# Altium footprint library ESP32_SERVO.PcbLib: 11 footprints
Each footprint in its own frame and in the unit in brackets; x right, y up, seen from the top. Pads: shape width x height; smd on the part's side, far side on the other; paste and mask are expansions set on the pad; w line width, h text height; cw(c..) or ccw(c..) is an arc to the next point about the centre after c.
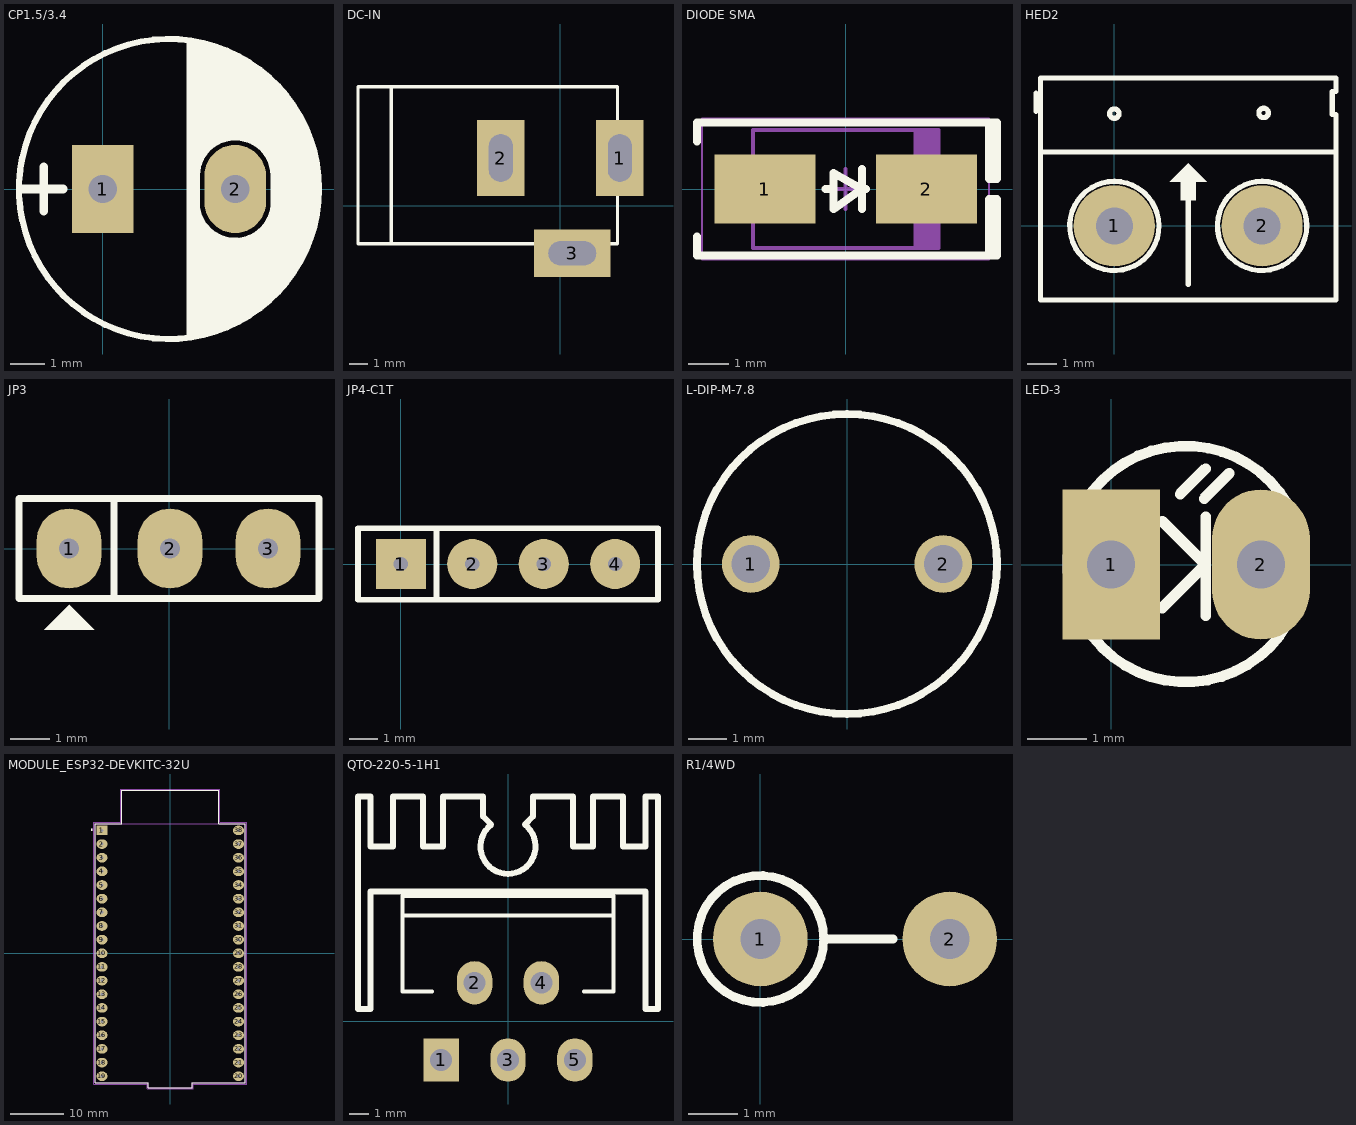
[diagram p0: the footprints below, top view; thin cyan lines are the x and y axes]

## CP1.5/3.4 [mil] "Tu hoa 220->470uF,16V, 470uF/16V,25V"
height 300
pads (2):
  rect 70x100 hole 32: 1(0,0)
  oval 70x100 hole 32: 2(150,0)
Top Overlay:
  circle w7: c75,0 r170
  region: 100,25 135,60 162.93,60 164.6,59.92 167.88,59.26 170.98,57.98 173.76,56.12 175,55 181.46,48.54 182.26,47.66 183.57,45.69 184.48,43.5 184.94,41.18 185,40 190,35 191.12,33.76 192.98,30.98 194.26,27.88 194.92,24.6 195,22.93 195,-27.93 194.92,-29.6 194.26,-32.88 192.98,-35.98 191.12,-38.76 190,-40 178.54,-51.46 177.66,-52.26 175.69,-53.57 173.5,-54.48 171.18,-54.94 170,-55 168.76,-56.13 165.98,-57.98 162.88,-59.27 159.6,-59.92 157.93,-60 144.14,-60 140.8,-59.84 134.23,-58.53 128.05,-55.97 122.48,-52.25 120,-50 108.54,-38.54 107.74,-37.66 106.43,-35.69 105.52,-33.5 105.06,-31.18 105,-30 100,-30 100,-170 155,-150 195,-120 225,-80 245,-20 245,20 230,70 200,115 165,145 120,165 100,170
  lines w10: -90,0 -45,0 ; -67,-25 -67,25 ; 100,-165 100,165 ; 100,25 105,25 ; 105,-20 105,30 ; 105,-10 ccw(c150,-15) 145,-60 ccw(c150,-15) 195,-20 195,15 ccw(c150,15) 150,60 ccw(c150,15) 105,15
3D body "User Library-CAP 8X11_5.STEP": height 445.89, standoff -754.41, extent -84.96,-157.48 230,157.48

## DC-IN [mil] "Jac DC input"
height 200
pads (3):
  rect 100x160 hole 50 slot 100 at 90 deg: 1(125,100) 2(-125,100)
  rect 160x100 hole 50 slot 100 at 0 deg: 3(25,-100)
Top Overlay:
  lines w7: -355,-80 -355,250 ; -425,-80 -425,250 120,250 120,-80 -425,-80
3D body "SW3dPS-dc range - dc connector[4840.2201].STEP": height 433.67, standoff -137.2, extent -410.35,-105.12 134,269.12

## DIODE SMA [mm] "SMA"
height 2.4
pads (2):
  rect 2.5x1.7 smd: 1(-2,0) 2(2,0)
Top Overlay:
  lines w0.2: -3.683,-1.175 -3.683,-1.651 3.75,-1.651 3.75,-0.254 3.556,-0.254 3.556,-1.651 ; -3.683,1.175 -3.683,1.651 3.75,1.651 3.75,0.254 3.556,0.254 3.556,1.651 ; -0.5,0 -0.3,0 ; 0.4,-0.5 0.4,0.5 ; 0.5,0 0.4,0 ; 0.4,0 -0.3,0.4 -0.3,-0.5 0.4,0
Mechanical 13:
  rectangle: 1.681,-1.46 2.3,1.46
  lines w0.1: -2.3,-1.46 -2.3,1.46 2.3,1.46 2.3,-1.46 -2.3,-1.46
Mechanical 15:
  lines w0.05: -3.556,-1.75 -3.556,1.75 3.556,1.75 3.556,-1.75 -3.556,-1.75
  lines w0.1: -0.5,0 0.5,0 ; 0,-0.5 0,0.5
3D body "SMA.STEP": height 2.4, standoff 0, extent -2.6,-1.375 2.6,1.375

## HED2 [mil] "Header 2, 2 pin, hight 300mil, Pin to Pin 200, Colour Green"
height 300
pads (2):
  round 110 hole 50: 1(0,0) 2(200,0)
Top Overlay:
  circle w7: c202,153 r6.4
  circle w7: c0,152 r6.4
  region: 100,85 75,60 90,60 90,35 110,35 110,60 125,60
  lines w7: -106,155 -106,180 ; -98,100 299,100 ; 38.83,46.23 ccw(c0,0) 40.11,45.12 ; 100,-79 100,72 ; 238.74,46.3 ccw(c200,0) 240.11,45.12 ; -100,-100 -100,50 -100,200 300,200 300,182 295,182 295,151 300,151 300,-100 -100,-100
3D body "SW3dPS-KRM2.STEP": height 393.7, standoff -157.48, extent -91.85,-140 301.85,155.28

## JP3 [mil] "Jumper 3"
height 200
pads (3):
  oval 65x80 hole 20: 1(-100,0) 2(1,0) 3(99,0)
Top Overlay:
  region: -100,-56 -125,-81 -75,-81
  lines w7: -55,-50 -55,49 ; -150,-50 -150,50 150,50 150,-50 -150,-50
3D body "User Library-PinHeaderX3.STEP": height 355.04, standoff -124.88, extent -150,-59.96 150,55

## JP4-C1T [mil] "4 row, straight, gold plating"
height 334.65
pads (4):
  rect 70x70 hole 20: 1(0,0)
  round 70 hole 20: 2(100,0) 3(200,0) 4(300,0)
Top Overlay:
  lines w7.87: 50,-50 50,50 ; -59.84,-50 -59.84,50 359.85,50 359.85,-50 -59.84,-50
3D body "61300411821.stp": height 335.04, standoff -121.65, extent -59.84,-49.21 359.85,49.22

## L-DIP-M-7.8 [mm] "THT Inductor, 2-Leads, Body 7,8  mm"
height 9.5
pads (2):
  round 1.5 hole 1: 1(-2.5,0) 2(2.5,0)
Top Overlay:
  circle w0.2: c0,0 r3.9
Mechanical 1:
  circle w0.1: c0,0 r3.9
3D body "744772471.stp": height 9.5, standoff -5, extent -3.9,-3.9 3.886,3.895

## LED-3 [mil] "LED 2 PIN, 3ly Only colour"
height 300
pads (2):
  rect 65x100 hole 32: 1(0,0)
  oval 65x100 hole 32: 2(100,0)
Top Overlay:
  lines w7: 34,-29 63,0 34,29 ; 46,47 63,64 ; 62,44 79,61 ; 63,-34 63,32 ; 117.92,-39.35 117.92,39.84
  lines w7.01: 117.57,-39.74 cw(c49.8,0.35) 117.72,40.19
3D body "SW3DPS-LED DIP 3MM-DEFAULT.STEP": height 217.14, standoff -117.51, extent -24.8,-74.81 112.99,74.8

## MODULE_ESP32-DEVKITC-32U [mil]
height 437.01
pads (38):
  rect 80x70 hole 20: 1(-500,899.61)
  oval 80x70 hole 20: 2(-500,799.61) 3(-500,699.61) 4(-500,599.61) 5(-500,499.61) 6(-500,399.61) 7(-500,299.61) 8(-500,199.61) 9(-500,99.61) 10(-500,-0.39) 11(-500,-100.39) 12(-500,-200.39) 13(-500,-300.39) 14(-500,-400.39) 15(-500,-500.39) 16(-500,-600.39) 17(-500,-700.39) 18(-500,-800.39) 19(-500,-900.39) 20(500,-900.39) 21(500,-800.39) 22(500,-700.39) 23(500,-600.39) 24(500,-500.39) 25(500,-400.39) 26(500,-300.39) 27(500,-200.39) 28(500,-100.39) 29(500,-0.39) 30(500,99.61) 31(500,199.61) 32(500,299.61) 33(500,399.61) 34(500,499.61) 35(500,599.61) 36(500,699.61) 37(500,799.61) 38(500,899.61)
Top Overlay:
  circle w7.87: c-573.62,904.33 r3.94
  lines w5: -549.21,-948.82 -160.24,-948.82 -160.24,-984.25 159.84,-984.25 159.84,-948.82 549.21,-948.82 549.21,948.82 354.33,948.82 354.33,1192.91 -354.33,1192.91 -354.33,948.82 -549.21,948.82 -549.21,-948.82
Mechanical 13:
  circle w7.87: c-573.62,904.33 r3.94
  lines w5: -354.33,948.82 -354.33,1192.91 354.33,1192.91 354.33,948.82 ; -354.33,948.82 -549.21,948.82 -549.21,-948.82 -160.24,-948.82 -160.24,-984.25 159.84,-984.25 159.84,-948.82 549.21,-948.82 549.21,948.82 354.33,948.82 ; -354.33,948.82 354.33,948.82
Mechanical 15:
  lines w1.97: -559.06,-959.84 -170.08,-959.84 -170.08,-994.09 169.69,-994.09 169.69,-959.84 559.06,-959.84 559.06,959.84 364.17,959.84 364.17,1202.76 -364.17,1202.76 -364.17,959.84 -559.06,959.84 -559.06,-959.84

## QTO-220-5-1H1 [mm] "TO, Thru-Hole, Vertical, Heatsink Mounted; 5 Bent Staggered Leads; Pitch 1.7mm"
height 22.1
pads (6):
  rect 1.8x2.2 hole 1.1: 1(-3.4,-1.96)
  oval 1.8x2.2 hole 1.1: 2(-1.7,1.96) 3(0,-1.96) 4(1.7,1.96) 5(3.4,-1.96)
  round 0 all layers, no hole: 6(0,8.89)
Top Overlay:
  lines w0.2: -5.35,5.38 5.35,5.38 ; -3.854,1.51 -5.35,1.51 -5.35,6.375 5.35,6.375 5.35,1.51 3.854,1.51
  lines w0.305: -0.864,10.008 -1.27,10.414 -1.27,11.43 -3.302,11.43 -3.302,8.89 -4.318,8.89 -4.318,11.43 -5.842,11.43 -5.842,8.89 -6.985,8.89 -6.985,11.43 -7.62,11.43 -7.62,0.635 -6.985,0.635 -6.985,6.604 6.985,6.604 6.985,0.635 7.62,0.635 7.62,11.43 6.985,11.43 6.985,8.89 5.842,8.89 5.842,11.43 4.318,11.43 4.318,8.89 3.302,8.89 3.302,11.43 1.27,11.43 1.27,10.414 0.853,9.997 ; -0.854,9.995 ccw(c0,8.89) 0.858,9.993
3D body "SW3dPS-heatsink TO126.STEP": height 25, standoff -3.8, extent -7.365,1.213 7.416,12.014
3D body "TO220-5-1.STEP": height 21, standoff -7.28, extent -5.105,-2.105 5.095,6.452

## R1/4WD [mm] "R 1/4W, 2 Pin, 150mil"
height 2.54
pads (2):
  round 1.905 hole 0.8: 1(0,0) 2(3.81,0)
Top Overlay:
  circle w0.178: c0,0 r1.276
  lines w0.178: 1.27,0 2.667,0
3D body "SW3DPS-0_5W METAL FILM RESISTOR-DEFAULT.STEP": height 13.42, standoff -4.28, extent -1.778,-1.7 4.322,1.7